# Altium schematic symbol library YD-ESP32-S3.SchLib: 14 symbols
Pins are listed as number, name and electrical type; pins without a type are passive.

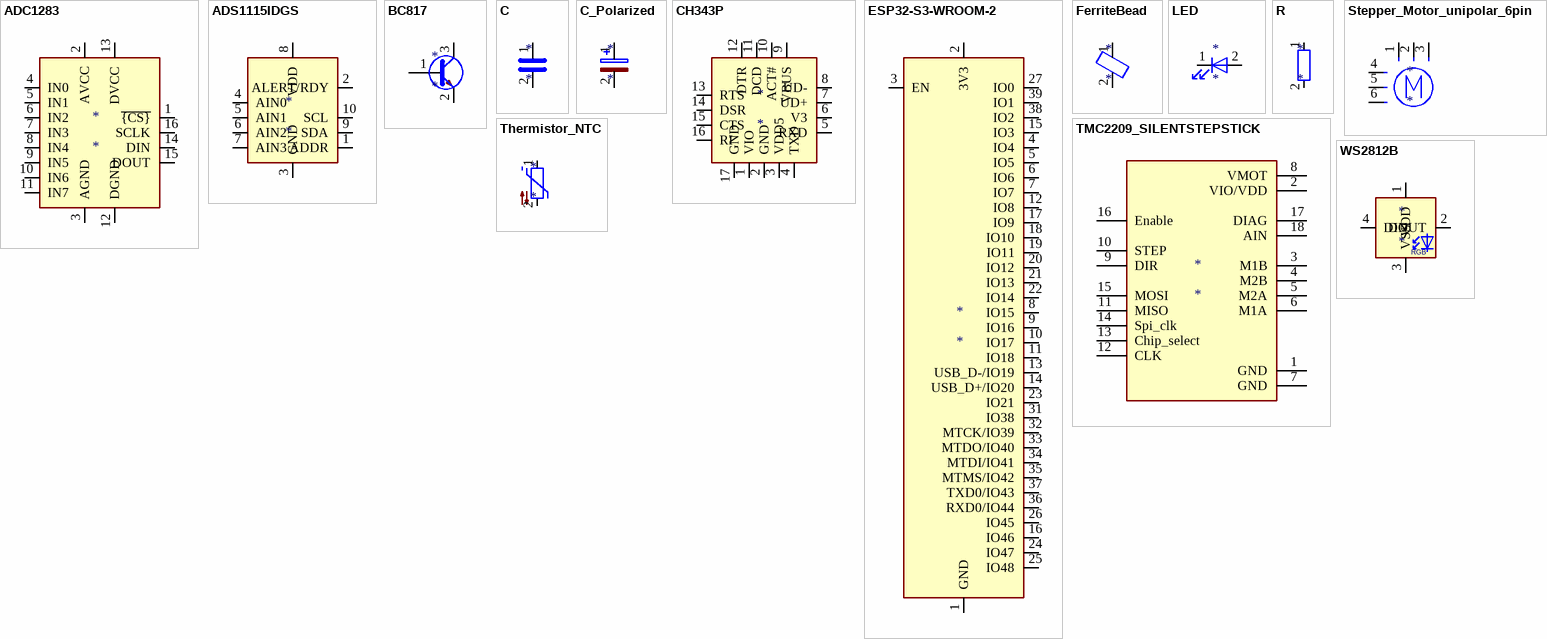
[diagram p0: symbols ADC1283 to WS2812B]

## ADC1283
designator *
pins: 1 ~{{CS}}, 2 AVCC, 3 AGND, 4 IN0, 5 IN1, 6 IN2, 7 IN3, 8 IN4, 9 IN5, 10 IN6, 11 IN7, 12 DGND, 13 DVCC, 14 DIN, 15 DOUT, 16 SCLK

## ADS1115IDGS
designator *
pins: 1 ADDR, 2 ALERT/RDY, 3 GND, 4 AIN0, 5 AIN1, 6 AIN2, 7 AIN3, 8 VDD, 9 SDA, 10 SCL

## BC817
designator *
pins: 1 B, 2 E, 3 C

## C
designator *
pins: 1, 2

## C_Polarized
designator *
pins: 1, 2

## CH343P
designator *
pins: 1 VIO, 2 GND, 3 VDD5, 4 TXD, 5 RXD, 6 V3, 7 UD+, 8 UD-, 9 VBUS, 10 ACT#, 11 DCD, 12 DTR, 13 RTS, 14 DSR, 15 CTS, 16 RI, 17 GND

## ESP32-S3-WROOM-2
designator *
pins: 1 GND, 2 3V3, 3 EN, 4 IO4, 5 IO5, 6 IO6, 7 IO7, 8 IO15, 9 IO16, 10 IO17, 11 IO18, 12 IO8, 13 USB_D-/IO19, 14 USB_D+/IO20, 15 IO3, 16 IO46, 17 IO9, 18 IO10, 19 IO11, 20 IO12, 21 IO13, 22 IO14, 23 IO21, 24 IO47, 25 IO48, 26 IO45, 27 IO0, 28 NC hidden, 29 NC hidden, 30 NC hidden, 31 IO38, 32 MTCK/IO39, 33 MTDO/IO40, 34 MTDI/IO41, 35 MTMS/IO42, 36 RXD0/IO44, 37 TXD0/IO43, 38 IO2, 39 IO1, 40 GND hidden, 41 GND hidden

## FerriteBead
designator *
pins: 1, 2

## LED
designator *
pins: 1 K, 2 A

## R
designator *
pins: 1, 2

## Stepper_Motor_unipolar_6pin
designator *
pins: 1, 2, 3 -, 4, 5, 6

## Thermistor_NTC
designator *
pins: 1, 2

## TMC2209_SILENTSTEPSTICK
designator *
pins: 1 GND, 2 VIO/VDD, 3 M1B, 4 M2B, 5 M2A, 6 M1A, 7 GND, 8 VMOT, 9 DIR, 10 STEP, 11 MISO, 12 CLK, 13 Chip_select, 14 Spi_clk, 15 MOSI, 16 Enable, 17 DIAG, 18 AIN

## WS2812B
designator *
pins: 1 VDD, 2 DOUT, 3 VSS, 4 DIN
text: RGB